# Altium schematic symbol library Schlib1.SchLib: 13 symbols
Pins are listed as number, name and electrical type; pins without a type are passive.

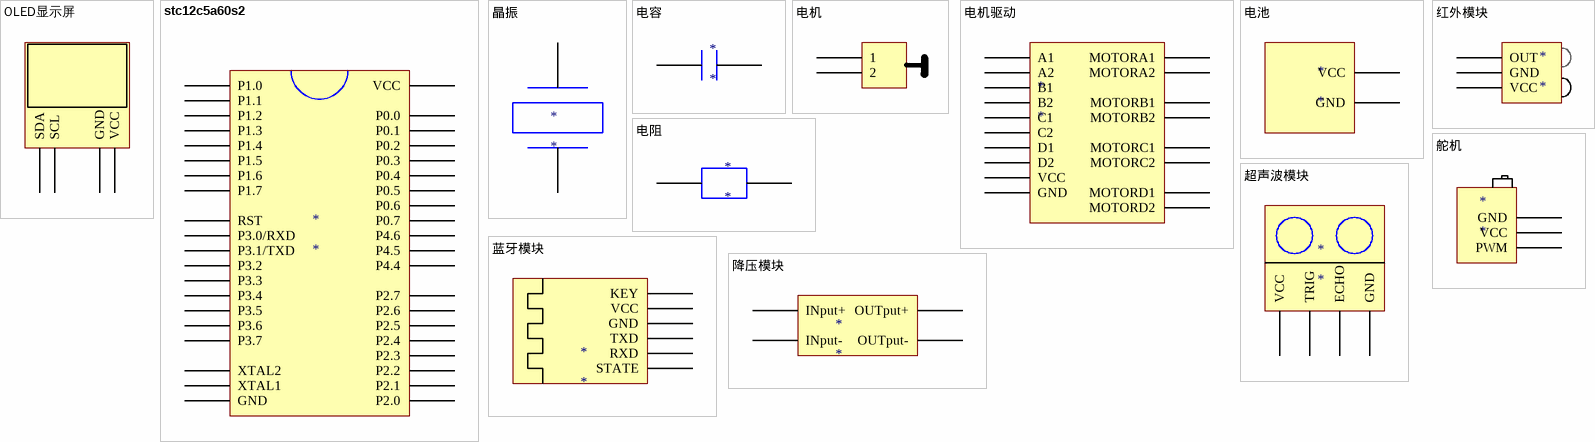
[diagram p0: symbols OLED显示屏 to 降压模块]

## OLED显示屏
designator ?
pins: ?1 SDA, ?2 SCL, ?3 VCC, ?4 GND

## stc12c5a60s2
designator *
pins: 1 P0.0, 2 P0.1, 4 P0.3, 5 P0.4, 6 P0.5, 7 P0.6, 8 P0.7, 9 P1.0, 11 P1.2, 12 P1.3, 13 P1.4, 14 P1.5, 15 P1.6, 16 P1.7, 18 VCC, 18 XTAL1, 18 XTAL2, 20 GND, 23 P3.2, 24 P3.3, 25 P3.4, 26 P3.5, 27 P3.6, 28 P3.7, 29 P3.1/TXD, 31 P4.4, 32 P2.0, 33 P2.1, 36 P2.4, 37 P2.5, 38 P2.6, 40 P4.5, 40 P4.6,  3 P0.2,  10 P1.1,  19 RST,  30 P3.0/RXD,  34 P2.2,  35 P2.3,  39 P2.7

## 晶振
designator *
pins: 1  , 2  

## 电容
designator *
pins: 1  , 2  

## 电机
designator ?
pins: ?1 1, ?2 2

## 电机驱动
designator *
pins: ?1 A1, ?2 A2, ?3 B1, ?4 B2, ?5 C1, ?6 C2, ?7 D1, ?8 D2, ?9 VCC, ?10 GND, ?11 MOTORA1, ?12 MOTORA2, ?13 MOTORB1, ?14 MOTORB2, ?15 MOTORC1, ?16 MOTORC2, ?17 MOTORD1, ?18 MOTORD2

## 电池
designator *
pins: ?1 VCC, ?2 GND

## 电阻
designator *
pins: 1  , 2  

## 红外模块
designator *
pins: ?1 OUT, ?2 GND, ?3 VCC

## 舵机
designator *
pins: ?1 VCC, ?2 PWM, ?3 GND

## 蓝牙模块
designator *
pins: ?1 KEY, ?2 VCC, ?3 GND, ?4 TXD, ?5 RXD, ?6 STATE

## 超声波模块
designator *
pins: ?1 VCC, ?2 TRIG, ?3 ECHO, ?4 GND

## 降压模块
designator *
pins: ?1 OUTput+, ?2 OUTput-, ?3 INput+, ?4 INput-